# EAGLE library part EP4CE6E22 (library altera-cyclone)
IC CYCLONE IV E FPGA 6K 144EQFP
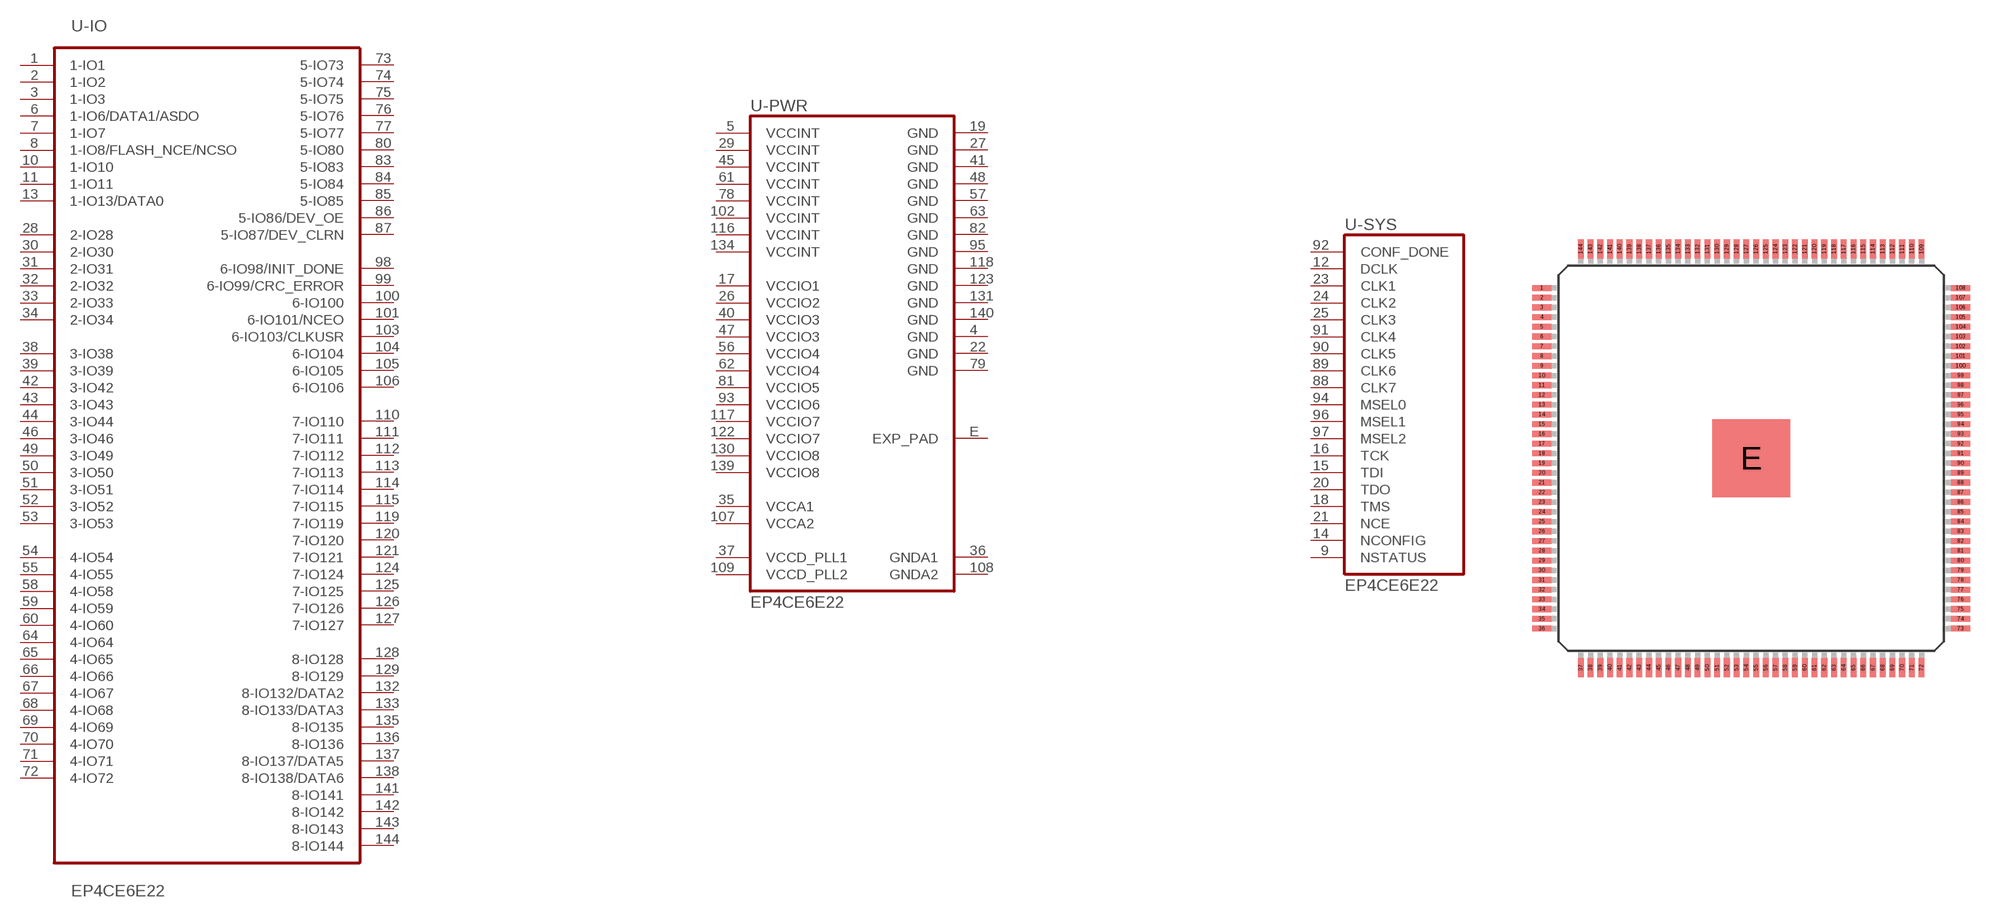
[diagram p5: symbol with the pads of EQFP144; footprint EQFP144]

Designator prefix U; gates -IO=EP4CE6E22_IO -PWR=EP4CE6E22_PWR -SYS=EP4CE6E22_SYS

## EP4CE6E22 (DIGIKEY: 544-2654-ND; P1I: o)  [EQFP144]
1  -IO:1-IO1
2  -IO:1-IO2
3  -IO:1-IO3
4  -PWR:GND  pwr
5  -PWR:VCCINT  pwr
6  -IO:1-IO6/DATA1/ASDO
7  -IO:1-IO7
8  -IO:1-IO8/FLASH_NCE/NCSO
9  -SYS:NSTATUS  pas
10  -IO:1-IO10
11  -IO:1-IO11
12  -SYS:DCLK  pas
13  -IO:1-IO13/DATA0
14  -SYS:NCONFIG  pas
15  -SYS:TDI  in
16  -SYS:TCK  in
17  -PWR:VCCIO1  pwr
18  -SYS:TMS  in
19  -PWR:GND  pwr
20  -SYS:TDO  out
21  -SYS:NCE  pas
22  -PWR:GND  pwr
23  -SYS:CLK1  pas
24  -SYS:CLK2  pas
25  -SYS:CLK3  pas
26  -PWR:VCCIO2  pwr
27  -PWR:GND  pwr
28  -IO:2-IO28
29  -PWR:VCCINT  pwr
30  -IO:2-IO30
31  -IO:2-IO31
32  -IO:2-IO32
33  -IO:2-IO33
34  -IO:2-IO34
35  -PWR:VCCA1  pwr
36  -PWR:GNDA1  pwr
37  -PWR:VCCD_PLL1  pwr
38  -IO:3-IO38
39  -IO:3-IO39
40  -PWR:VCCIO3  pwr
41  -PWR:GND  pwr
42  -IO:3-IO42
43  -IO:3-IO43
44  -IO:3-IO44
45  -PWR:VCCINT  pwr
46  -IO:3-IO46
47  -PWR:VCCIO3  pwr
48  -PWR:GND  pwr
49  -IO:3-IO49
50  -IO:3-IO50
51  -IO:3-IO51
52  -IO:3-IO52
53  -IO:3-IO53
54  -IO:4-IO54
55  -IO:4-IO55
56  -PWR:VCCIO4  pwr
57  -PWR:GND  pwr
58  -IO:4-IO58
59  -IO:4-IO59
60  -IO:4-IO60
61  -PWR:VCCINT  pwr
62  -PWR:VCCIO4  pwr
63  -PWR:GND  pwr
64  -IO:4-IO64
65  -IO:4-IO65
66  -IO:4-IO66
67  -IO:4-IO67
68  -IO:4-IO68
69  -IO:4-IO69
70  -IO:4-IO70
71  -IO:4-IO71
72  -IO:4-IO72
73  -IO:5-IO73
74  -IO:5-IO74
75  -IO:5-IO75
76  -IO:5-IO76
77  -IO:5-IO77
78  -PWR:VCCINT  pwr
79  -PWR:GND  pwr
80  -IO:5-IO80
81  -PWR:VCCIO5  pwr
82  -PWR:GND  pwr
83  -IO:5-IO83
84  -IO:5-IO84
85  -IO:5-IO85
86  -IO:5-IO86/DEV_OE
87  -IO:5-IO87/DEV_CLRN
88  -SYS:CLK7  pas
89  -SYS:CLK6  pas
90  -SYS:CLK5  pas
91  -SYS:CLK4  pas
92  -SYS:CONF_DONE  pas
93  -PWR:VCCIO6  pwr
94  -SYS:MSEL0  in
95  -PWR:GND  pwr
96  -SYS:MSEL1  in
97  -SYS:MSEL2  in
98  -IO:6-IO98/INIT_DONE
99  -IO:6-IO99/CRC_ERROR
100  -IO:6-IO100
101  -IO:6-IO101/NCEO
102  -PWR:VCCINT  pwr
103  -IO:6-IO103/CLKUSR
104  -IO:6-IO104
105  -IO:6-IO105
106  -IO:6-IO106
107  -PWR:VCCA2  pwr
108  -PWR:GNDA2  pwr
109  -PWR:VCCD_PLL2  pwr
110  -IO:7-IO110
111  -IO:7-IO111
112  -IO:7-IO112
113  -IO:7-IO113
114  -IO:7-IO114
115  -IO:7-IO115
116  -PWR:VCCINT  pwr
117  -PWR:VCCIO7  pwr
118  -PWR:GND  pwr
119  -IO:7-IO119
120  -IO:7-IO120
121  -IO:7-IO121
122  -PWR:VCCIO7  pwr
123  -PWR:GND  pwr
124  -IO:7-IO124
125  -IO:7-IO125
126  -IO:7-IO126
127  -IO:7-IO127
128  -IO:8-IO128
129  -IO:8-IO129
130  -PWR:VCCIO8  pwr
131  -PWR:GND  pwr
132  -IO:8-IO132/DATA2
133  -IO:8-IO133/DATA3
134  -PWR:VCCINT  pwr
135  -IO:8-IO135
136  -IO:8-IO136
137  -IO:8-IO137/DATA5
138  -IO:8-IO138/DATA6
139  -PWR:VCCIO8  pwr
140  -PWR:GND  pwr
141  -IO:8-IO141
142  -IO:8-IO142
143  -IO:8-IO143
144  -IO:8-IO144
E  -PWR:EXP_PAD  pwr

## Footprint EQFP144 (pad centres in mm)
smd 1 x 0.3: 1 -10.75,8.75; 2 -10.75,8.25; 3 -10.75,7.75; 4 -10.75,7.25; 5 -10.75,6.75; 6 -10.75,6.25; 7 -10.75,5.75; 8 -10.75,5.25; 9 -10.75,4.75; 10 -10.75,4.25; 11 -10.75,3.75; 12 -10.75,3.25; 13 -10.75,2.75; 14 -10.75,2.25; 15 -10.75,1.75; 16 -10.75,1.25; 17 -10.75,0.75; 18 -10.75,0.25; 19 -10.75,-0.25; 20 -10.75,-0.75; 21 -10.75,-1.25; 22 -10.75,-1.75; 23 -10.75,-2.25; 24 -10.75,-2.75; 25 -10.75,-3.25; 26 -10.75,-3.75; 27 -10.75,-4.25; 28 -10.75,-4.75; 29 -10.75,-5.25; 30 -10.75,-5.75; 31 -10.75,-6.25; 32 -10.75,-6.75; 33 -10.75,-7.25; 34 -10.75,-7.75; 35 -10.75,-8.25; 36 -10.75,-8.75; 73 10.75,-8.75; 74 10.75,-8.25; 75 10.75,-7.75; 76 10.75,-7.25; 77 10.75,-6.75; 78 10.75,-6.25; 79 10.75,-5.75; 80 10.75,-5.25; 81 10.75,-4.75; 82 10.75,-4.25; 83 10.75,-3.75; 84 10.75,-3.25; 85 10.75,-2.75; 86 10.75,-2.25; 87 10.75,-1.75; 88 10.75,-1.25; 89 10.75,-0.75; 90 10.75,-0.25; 91 10.75,0.25; 92 10.75,0.75; 93 10.75,1.25; 94 10.75,1.75; 95 10.75,2.25; 96 10.75,2.75; 97 10.75,3.25; 98 10.75,3.75; 99 10.75,4.25; 100 10.75,4.75; 101 10.75,5.25; 102 10.75,5.75; 103 10.75,6.25; 104 10.75,6.75; 105 10.75,7.25; 106 10.75,7.75; 107 10.75,8.25; 108 10.75,8.75
smd 0.3 x 1: 37 -8.75,-10.75; 38 -8.25,-10.75; 39 -7.75,-10.75; 40 -7.25,-10.75; 41 -6.75,-10.75; 42 -6.25,-10.75; 43 -5.75,-10.75; 44 -5.25,-10.75; 45 -4.75,-10.75; 46 -4.25,-10.75; 47 -3.75,-10.75; 48 -3.25,-10.75; 49 -2.75,-10.75; 50 -2.25,-10.75; 51 -1.75,-10.75; 52 -1.25,-10.75; 53 -0.75,-10.75; 54 -0.25,-10.75; 55 0.25,-10.75; 56 0.75,-10.75; 57 1.25,-10.75; 58 1.75,-10.75; 59 2.25,-10.75; 60 2.75,-10.75; 61 3.25,-10.75; 62 3.75,-10.75; 63 4.25,-10.75; 64 4.75,-10.75; 65 5.25,-10.75; 66 5.75,-10.75; 67 6.25,-10.75; 68 6.75,-10.75; 69 7.25,-10.75; 70 7.75,-10.75; 71 8.25,-10.75; 72 8.75,-10.75; 109 8.75,10.75; 110 8.25,10.75; 111 7.75,10.75; 112 7.25,10.75; 113 6.75,10.75; 114 6.25,10.75; 115 5.75,10.75; 116 5.25,10.75; 117 4.75,10.75; 118 4.25,10.75; 119 3.75,10.75; 120 3.25,10.75; 121 2.75,10.75; 122 2.25,10.75; 123 1.75,10.75; 124 1.25,10.75; 125 0.75,10.75; 126 0.25,10.75; 127 -0.25,10.75; 128 -0.75,10.75; 129 -1.25,10.75; 130 -1.75,10.75; 131 -2.25,10.75; 132 -2.75,10.75; 133 -3.25,10.75; 134 -3.75,10.75; 135 -4.25,10.75; 136 -4.75,10.75; 137 -5.25,10.75; 138 -5.75,10.75; 139 -6.25,10.75; 140 -6.75,10.75; 141 -7.25,10.75; 142 -7.75,10.75; 143 -8.25,10.75; 144 -8.75,10.75
smd 4 x 4: E 0,0